# Altium footprint library LM2765.PcbLib: 3 footprints
Each footprint in its own frame and in the unit in brackets; x right, y up, seen from the top. Pads: shape width x height; smd on the part's side, far side on the other; paste and mask are expansions set on the pad; w line width, h text height; cw(c..) or ccw(c..) is an arc to the next point about the centre after c.
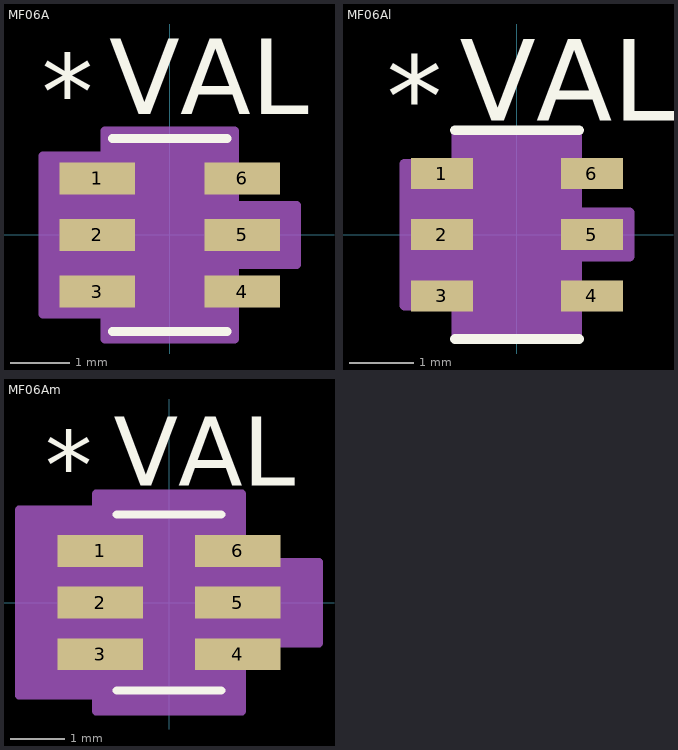
[diagram p0: the footprints below, top view; thin cyan lines are the x and y axes]

## MF06A [mil]
pads (6):
  rect 50x21 smd: 1(-48,37.5) 2(-48,0) 3(-48,-37.5) 4(48,-37.5) 5(48,0) 6(48,37.5)
Top Overlay:
  lines w6: -38,-64 38,-64 ; -38,64 38,64
  text "VAL" at -40,80 h50
  text "*" at -85,70 h50
Mechanical 13:
  text "*" at -85,70 h50
Mechanical 15:
  region: 43,-69 -43,-69 -43,-52.5 -84,-52.5 -84,52.5 -43,52.5 -43,69 43,69 43,19.5 84,19.5 84,-19.5 43,-19.5
  lines w6: -84,-52.5 -84,52.5 -43,52.5 -43,69 43,69 43,19.5 84,19.5 84,-19.5 43,-19.5 43,-69 -43,-69 -43,-52.5 -84,-52.5
Multi-Layer:
  text "Copyright (C) 2015 Accelerated Designs. All rights reserved" at 0,0 h1

## MF06Al [mil]
pads (6):
  rect 38x19 smd: 1(-46,37.5) 2(-46,0) 3(-46,-37.5) 4(46,-37.5) 5(46,0) 6(46,37.5)
Top Overlay:
  lines w6: -38,-64 38,-64 ; -38,64 38,64
  text "VAL" at -35,70 h50
  text "*" at -80,60 h50
Mechanical 13:
  text "*" at -80,60 h50
Mechanical 15:
  region: 37,-63 -37,-63 -37,-43.5 -69,-43.5 -69,43.5 -37,43.5 -37,63 37,63 37,13.5 69,13.5 69,-13.5 37,-13.5
  lines w6: -69,-43.5 -69,43.5 -37,43.5 -37,63 37,63 37,13.5 69,13.5 69,-13.5 37,-13.5 37,-63 -37,-63 -37,-43.5 -69,-43.5
Multi-Layer:
  text "Copyright (C) 2015 Accelerated Designs. All rights reserved" at 0,0 h1

## MF06Am [mil]
pads (6):
  rect 62x23 smd: 1(-50,37.5) 2(-50,0) 3(-50,-37.5) 4(50,-37.5) 5(50,0) 6(50,37.5)
Top Overlay:
  lines w6: -38,-64 38,-64 ; -38,64 38,64
  text "VAL" at -40,85 h50
  text "*" at -90,75 h50
Mechanical 13:
  text "*" at -90,75 h50
Mechanical 15:
  region: 53,-79 -53,-79 -53,-67.5 -109,-67.5 -109,67.5 -53,67.5 -53,79 53,79 53,29.5 109,29.5 109,-29.5 53,-29.5
  lines w6: -109,-67.5 -109,67.5 -53,67.5 -53,79 53,79 53,29.5 109,29.5 109,-29.5 53,-29.5 53,-79 -53,-79 -53,-67.5 -109,-67.5
Multi-Layer:
  text "Copyright (C) 2015 Accelerated Designs. All rights reserved" at 0,0 h1